# EAGLE library part LTC2440 (library IC)
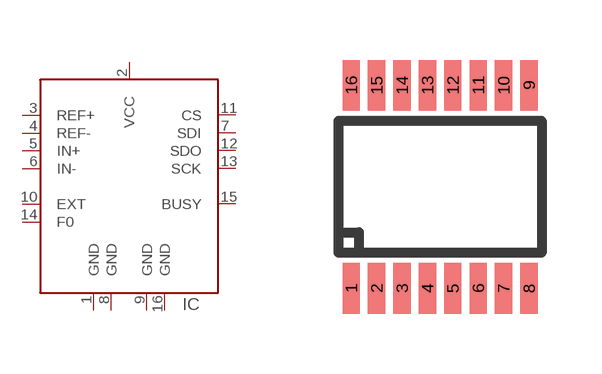
[diagram p155: symbol with the pads of SSOP16-LTCGN; footprint SSOP16-LTCGN]

Designator prefix IC

## LTC2440GN  [SSOP16-LTCGN]
1  GND
2  VCC
3  REF+
4  REF-
5  IN+
6  IN-
7  SDI
8  GND
9  GND
10  EXT
11  CS
12  SDO
13  SCK
14  F0
15  BUSY
16  GND

## Footprint SSOP16-LTCGN (pad centres in mm)
Linear Technology GN - SSOP16
smd 0.432 x 1.27: 1 -2.223,-2.54; 2 -1.587,-2.54; 3 -0.953,-2.54; 4 -0.318,-2.54; 5 0.318,-2.54; 6 0.953,-2.54; 7 1.587,-2.54; 8 2.223,-2.54; 9 2.223,2.54; 10 1.587,2.54; 11 0.953,2.54; 12 0.318,2.54; 13 -0.318,2.54; 14 -0.953,2.54; 15 -1.587,2.54; 16 -2.223,2.54